# Altium schematic symbol library QSTL_RFSW_LED.SchLib: 3 symbols
Pins are listed as number, name and electrical type; pins without a type are passive.

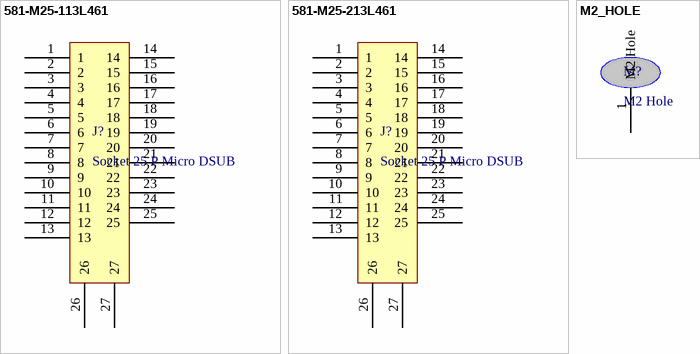
[diagram p0: symbols 581-M25-113L461 to M2_HOLE]

## 581-M25-113L461
designator J?, comment Socket 25 P Micro DSUB
footprint 581-M25-113L461
pins: 1, 2, 3, 4, 5, 6, 7, 8, 9, 10, 11, 12, 13, 14, 15, 16, 17, 18, 19, 20, 21, 22, 23, 24, 25, 26, 27

## 581-M25-213L461
designator J?, comment Socket 25 P Micro DSUB
footprint 581-M25-213L461
pins: 1, 2, 3, 4, 5, 6, 7, 8, 9, 10, 11, 12, 13, 14, 15, 16, 17, 18, 19, 20, 21, 22, 23, 24, 25, 26, 27

## M2_HOLE
designator M?, comment M2 Hole
footprint M2_Hole
pins: 1 M2 Hole